# EAGLE library part USB (library con-usb3.0)
USB Connectors
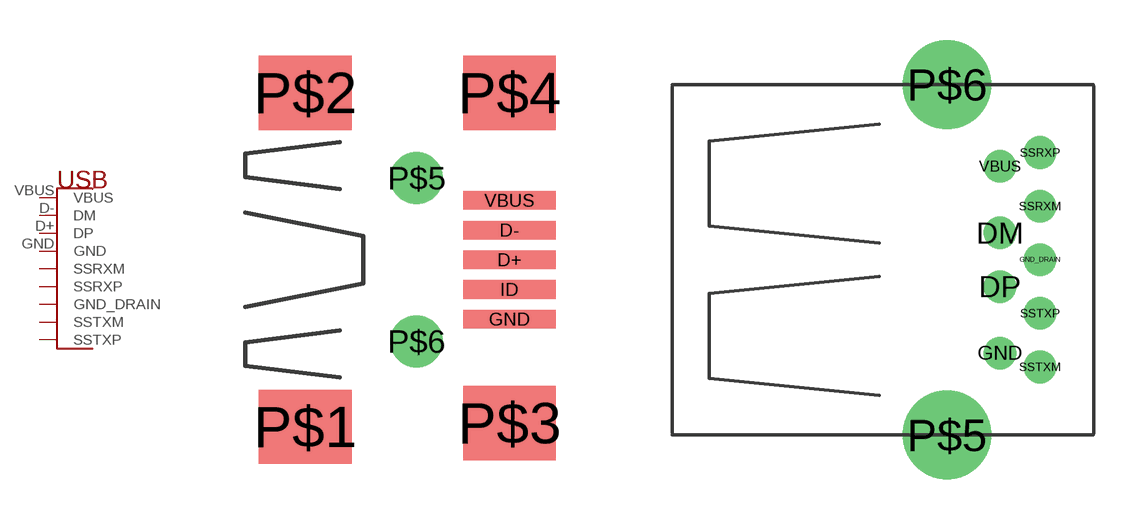
[diagram p0: symbol with the pads of USB-MB-S; footprints USB-MB-S, USB-A-H]

Designator prefix X

## USB-MB-S  [USB-MB-S]
D+  DP
D-  DM
GND  GND
VBUS  VBUS

## USB-A-H  [USB-A-H]
DM  DM
DP  DP
GND  GND
GND_DRAIN  GND_DRAIN
SSRXM  SSRXM
SSRXP  SSRXP
SSTXM  SSTXM
SSTXP  SSTXP
VBUS  VBUS

## USB-B-H  [USB-B-H]
Pads as for USB-A-H

## USB-A-S  [USB-A-S]
Pads as for USB-MB-S

## USB-MB-H  [USB-MB-H]
Pads as for USB-MB-S

## USB-A-HU  [USB-A-HU]
Pads as for USB-MB-S

## USB-B-S  [USB-B-SMT]
D+  DP
D-  DM
GND  GND
VUSB  VBUS

## Footprint USB-MB-S (pad centres in mm)
USB Series Mini-B Surface Mounted
smd 2.5 x 0.5: D+ 2.5,0; D- 2.5,0.8; GND 2.5,-1.6; ID 2.5,-0.8; VBUS 2.5,1.6
smd 2.5 x 2: P$1 -3,-4.5; P$2 -3,4.5; P$3 2.5,-4.4; P$4 2.5,4.5
drill 0.9: P$5 0,2.2; P$6 0,-2.2

## Footprint USB-A-H (pad centres in mm)
USB Series A Hole Mounted
drill 0.711: DM 1.981,1.003; DP 1.981,-1.003; GND 1.981,-3.493; GND_DRAIN 3.48,0; SSRXM 3.48,2.007; SSRXP 3.48,4.013; SSTXM 3.48,-4.013; SSTXP 3.48,-2.007; VBUS 1.981,3.493
drill 2.311: P$5 0,-6.566; P$6 0,6.566

## Footprint USB-B-H (pad centres in mm)
USB Series B Hole Mounted
drill 0.914: DM 1.981,1.25; DP 0,1.25; GND 0,-1.25; VBUS 1.981,-1.25
drill 0.711: GND_DRAIN 3.988,0; SSRXM 3.988,-2.502; SSRXP 3.988,-4.255; SSTXM 3.988,4.255; SSTXP 3.988,2.502
drill 2.286: P$1 -2.718,-6.02; P$2 -2.718,6.02

## Footprint USB-A-S (pad centres in mm)
USB Series A Surface Mounted
smd 3 x 0.9: D+ 3.45,-1; D- 3.45,1; GND 3.45,-3; VBUS 3.45,3
drill 2.311: P$5 0,-6.566; P$6 0,6.566

## Footprint USB-MB-H (pad centres in mm)
USB Series Mini-B Hole Mounted
drill 0.8: D+ 5.1,0; D- 3.9,0.8; GND 5.1,-1.6; ID 3.9,-0.8; VBUS 5.1,1.6
drill 1.9: P$6 0,-3.65; P$7 0,3.65

## Footprint USB-A-HU (pad centres in mm)
USB Series A Hole Mounted Up-Right
drill 0.9: D+ 2.73,0; D- 4.73,0; GND 0.73,0; VBUS 6.73,0
drill 1.5: P$5 0,2.72; P$6 0,-2.72; P$7 7,2.72; P$8 7,-2.72

## Footprint USB-B-SMT (pad centres in mm)
USB Series B Surface Mounted
smd 6.04 x 3.4: 5 0.58,6.8; 6 0.58,-6.8
smd 3 x 0.7: D+ 7,1.875; D- 7,0.625; GND 7,-0.625; VUSB 7,-1.875
hole 1.4 at 0,2.25
hole 1.4 at 0,-2.25